# Altium integrated library Analog Devices Interface and Isolation Digital Isolators.IntLib: 645 symbols (part 25 of 36)
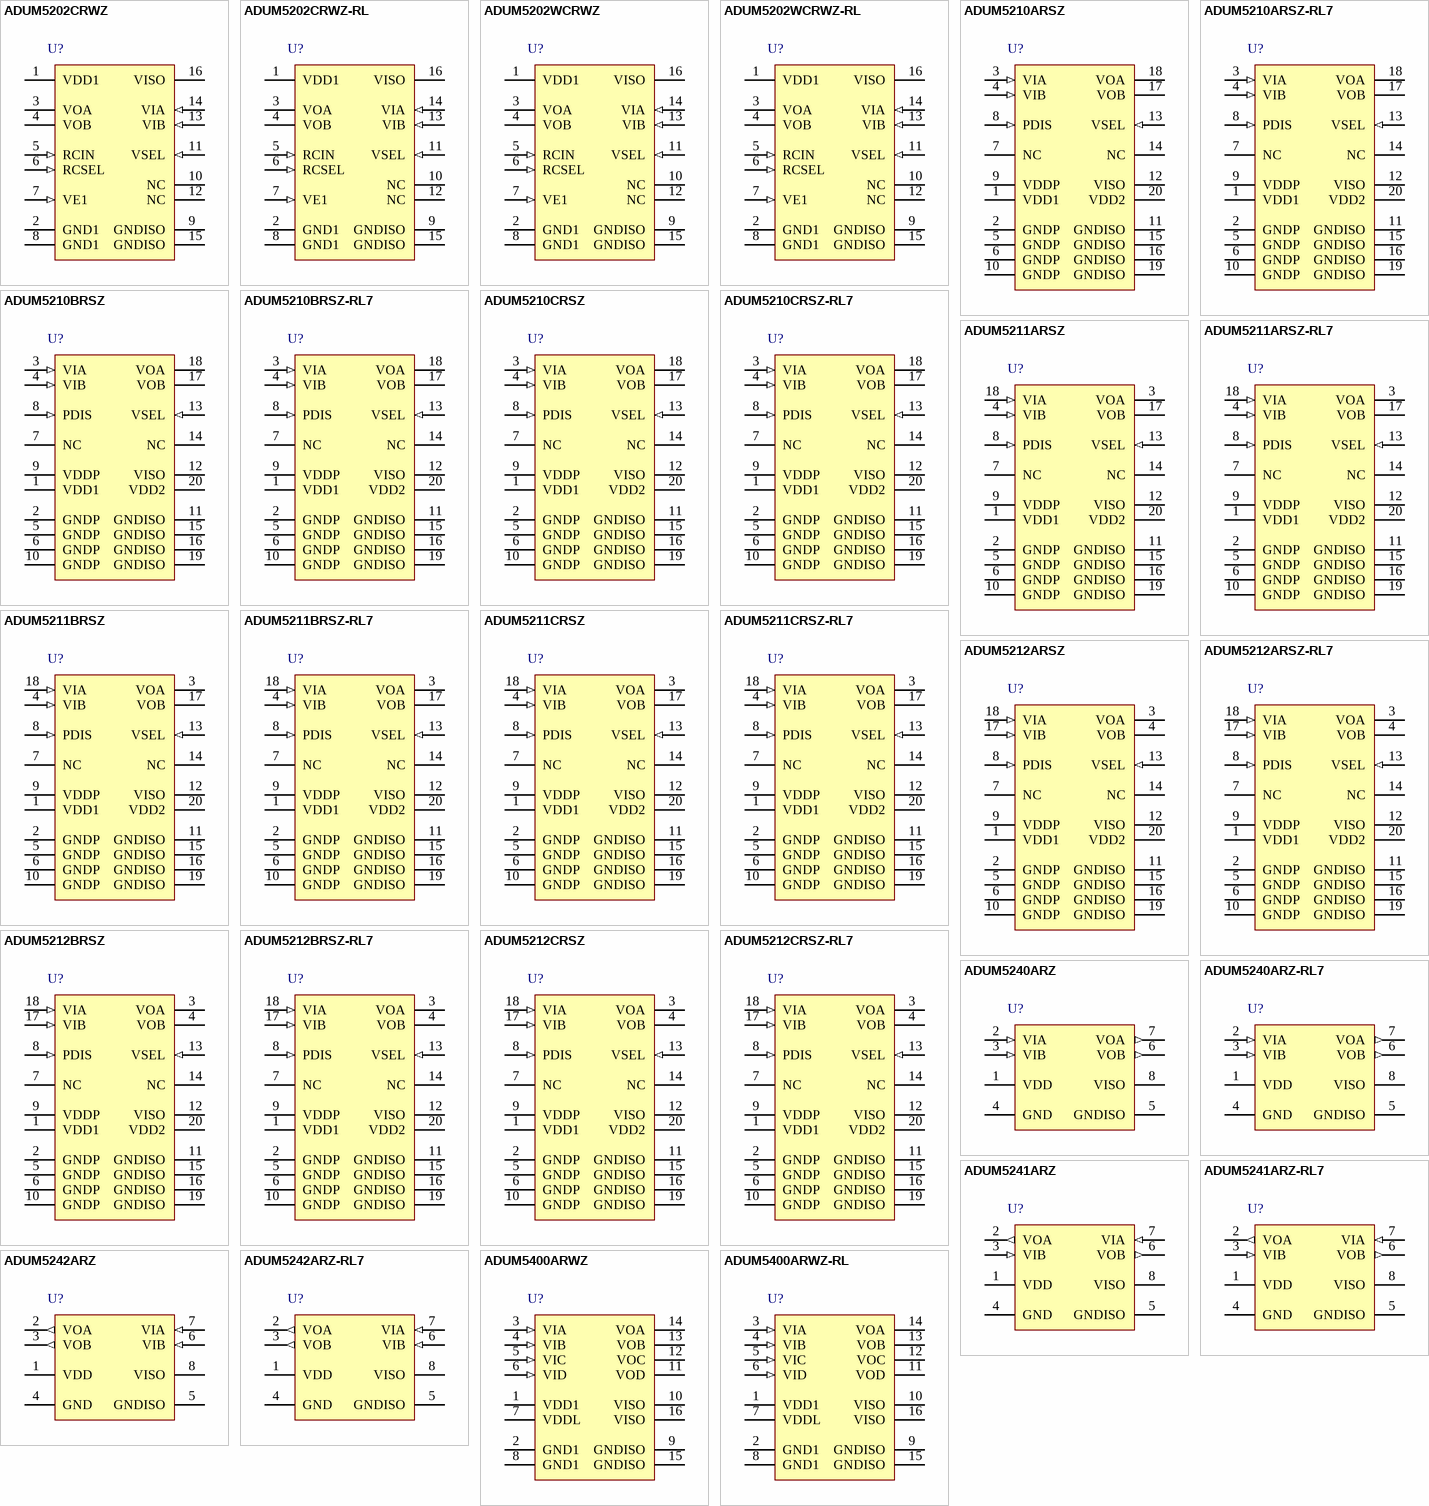
[diagram p44: symbols ADUM5202CRWZ to ADUM5400ARWZ-RL]

## ADUM5211ARSZ-RL7
designator U?
Dual Channel Isolator with Integrated DC / DC Converter, 2.5 KV rms Insulation Rating, 1 Mbps Data Rate, 75 ns Delay, Industrial, 20-pin SOP (RS-20), Reel; Manufacturer: Analog Devices; PartNumber: ADUM5211ARSZ-RL7; Insulation Rating (kVrms): 2.5; Max Data Rate: 1Mbps; Prop Delay: 75ns; DatasheetVersion: Rev. 0; PackageVersion: Mar-03; PackageReference: RS-20; PackageDescription: 20-Pin Shrink Small Outline Package, Body 7.2 x 5.3 mm, Pitch 0.65 mm; Supplier 1: Digi-Key; Supplier Part Number 1: ADUM5211ARSZ-RL7-ND; Max Operating Temp (degreesC): 105; Mounting Technology: Surface Mount; Code_JEDEC: MO-150AE; ComponentLink1Description: Manufacturer URL; ComponentLink1URL: http://www.analog.com/en/index.html; ComponentLink2Description: Datasheet; ComponentLink2URL: http://www.analog.com/static/imported-files/data_sheets/ADuM5210_5211_5212.pdf; ComponentLink3Description: Package Specification; ComponentLink3URL: http://www.analog.com/static/imported-files/packages/318405805657546556503576154334802686596RS_20.pdf
footprint ADI-RS-20_N (SOP, 20-Leads, Body 7.2x5.3mm, Pitch 0.65mm, IPC Medium Density)
footprint ADI-RS-20_L (SOP, 20-Leads, Body 7.2x5.3mm, Pitch 0.65mm, IPC High Density)
footprint ADI-RS-20_M (SOP, 20-Leads, Body 7.2x5.3mm, Pitch 0.65mm, IPC Low Density)
pins: 1 VDD1 (power) "Power Supply for the Side 1 Logic Circuits of the Device. It is independent of VDDP and can operate between 3.0 V and 5.5 V.", 2 GNDP (power) "Ground Reference for Isolator Side 1. All of these pins are internally connected, and it is recommended that all GNDP pins be connected to a common ground.", 3 VOA (hiz) "Logic Output A.", 4 VIB (in) "Logic Input B.", 5 GNDP (power) "Ground Reference for Isolator Side 1. All of these pins are internally connected, and it is recommended that all GNDP pins be connected to a common ground.", 6 GNDP (power) "Ground Reference for Isolator Side 1. All of these pins are internally connected, and it is recommended that all GNDP pins be connected to a common ground.", 7 NC "This pin is not connected internally.", 8 PDIS (in) "Power Disable. When this pin is tied to a logic low, the power converter is active; when tied to a logic high, the power supply enters a low power standby mode.", 9 VDDP (power) "Primary isoPower Supply Voltage, 3.0 V to 5.5 V.", 10 GNDP (power) "Ground Reference for Isolator Side 1. All of these pins are internally connected, and it is recommended that all GNDP pins be connected to a common ground.", 11 GNDISO (power) "Ground Reference for Isolator Side 2. All of these pins are internally connected, and it is recommended that all GNDISO pins be connected to a common ground.", 12 VISO (power) "Secondary Supply Voltage Output for External Loads, 3.3 V (VSEL Low) or 5.0 V (VSEL High).", 13 VSEL (in) "Output Voltage Select. Provide a thermally matched resistor network between VISO and GNDISO to divide the required output voltage to match the 1.25 V reference voltage. VISO voltage can be programmed up to 20% higher or 75% (See Datasheet)", 14 NC "This pin is not connected internally.", 15 GNDISO (power) "Ground Reference for Isolator Side 2. All of these pins are internally connected, and it is recommended that all GNDISO pins be connected to a common ground.", 16 GNDISO (power) "Ground Reference for Isolator Side 2. All of these pins are internally connected, and it is recommended that all GNDISO pins be connected to a common ground.", 17 VOB (hiz) "Logic Output B.", 18 VIA (in) "Logic Input A.", 19 GNDISO (power) "Ground Reference for Isolator Side 2. All of these pins are internally connected, and it is recommended that all GNDISO pins be connected to a common ground.", 20 VDD2 (power) "Power Supply for the Side 2 Logic Circuits of the Device. It is independent of VISO and can operate between 3.0 V and 5.5 V."

## ADUM5211BRSZ
designator U?
Dual Channel Isolator with Integrated DC / DC Converter, 2.5 KV rms Insulation Rating, 25 Mbps Data Rate, 40 ns Delay, Industrial, 20-pin SOP (RS-20), Tube; Manufacturer: Analog Devices; PartNumber: ADUM5211BRSZ; Insulation Rating (kVrms): 2.5; Max Data Rate: 25Mbps; Prop Delay: 40ns; DatasheetVersion: Rev. 0; PackageVersion: Mar-03; PackageReference: RS-20; PackageDescription: 20-Pin Shrink Small Outline Package, Body 7.2 x 5.3 mm, Pitch 0.65 mm; Supplier 1: Digi-Key; Supplier Part Number 1: ADUM5211BRSZ-ND; Max Operating Temp (degreesC): 105; Mounting Technology: Surface Mount; Code_JEDEC: MO-150AE; ComponentLink1Description: Manufacturer URL; ComponentLink1URL: http://www.analog.com/en/index.html; ComponentLink2Description: Datasheet; ComponentLink2URL: http://www.analog.com/static/imported-files/data_sheets/ADuM5210_5211_5212.pdf; ComponentLink3Description: Package Specification; ComponentLink3URL: http://www.analog.com/static/imported-files/packages/318405805657546556503576154334802686596RS_20.pdf
footprint ADI-RS-20_N (SOP, 20-Leads, Body 7.2x5.3mm, Pitch 0.65mm, IPC Medium Density)
footprint ADI-RS-20_L (SOP, 20-Leads, Body 7.2x5.3mm, Pitch 0.65mm, IPC High Density)
footprint ADI-RS-20_M (SOP, 20-Leads, Body 7.2x5.3mm, Pitch 0.65mm, IPC Low Density)
pins: 1 VDD1 (power) "Power Supply for the Side 1 Logic Circuits of the Device. It is independent of VDDP and can operate between 3.0 V and 5.5 V.", 2 GNDP (power) "Ground Reference for Isolator Side 1. All of these pins are internally connected, and it is recommended that all GNDP pins be connected to a common ground.", 3 VOA (hiz) "Logic Output A.", 4 VIB (in) "Logic Input B.", 5 GNDP (power) "Ground Reference for Isolator Side 1. All of these pins are internally connected, and it is recommended that all GNDP pins be connected to a common ground.", 6 GNDP (power) "Ground Reference for Isolator Side 1. All of these pins are internally connected, and it is recommended that all GNDP pins be connected to a common ground.", 7 NC "This pin is not connected internally.", 8 PDIS (in) "Power Disable. When this pin is tied to a logic low, the power converter is active; when tied to a logic high, the power supply enters a low power standby mode.", 9 VDDP (power) "Primary isoPower Supply Voltage, 3.0 V to 5.5 V.", 10 GNDP (power) "Ground Reference for Isolator Side 1. All of these pins are internally connected, and it is recommended that all GNDP pins be connected to a common ground.", 11 GNDISO (power) "Ground Reference for Isolator Side 2. All of these pins are internally connected, and it is recommended that all GNDISO pins be connected to a common ground.", 12 VISO (power) "Secondary Supply Voltage Output for External Loads, 3.3 V (VSEL Low) or 5.0 V (VSEL High).", 13 VSEL (in) "Output Voltage Select. Provide a thermally matched resistor network between VISO and GNDISO to divide the required output voltage to match the 1.25 V reference voltage. VISO voltage can be programmed up to 20% higher or 75% (See Datasheet)", 14 NC "This pin is not connected internally.", 15 GNDISO (power) "Ground Reference for Isolator Side 2. All of these pins are internally connected, and it is recommended that all GNDISO pins be connected to a common ground.", 16 GNDISO (power) "Ground Reference for Isolator Side 2. All of these pins are internally connected, and it is recommended that all GNDISO pins be connected to a common ground.", 17 VOB (hiz) "Logic Output B.", 18 VIA (in) "Logic Input A.", 19 GNDISO (power) "Ground Reference for Isolator Side 2. All of these pins are internally connected, and it is recommended that all GNDISO pins be connected to a common ground.", 20 VDD2 (power) "Power Supply for the Side 2 Logic Circuits of the Device. It is independent of VISO and can operate between 3.0 V and 5.5 V."

## ADUM5211BRSZ-RL7
designator U?
Dual Channel Isolator with Integrated DC / DC Converter, 2.5 KV rms Insulation Rating, 25 Mbps Data Rate, 40 ns Delay, Industrial, 20-pin SOP (RS-20), Reel; Manufacturer: Analog Devices; PartNumber: ADUM5211BRSZ-RL7; Insulation Rating (kVrms): 2.5; Max Data Rate: 25Mbps; Prop Delay: 40ns; DatasheetVersion: Rev. 0; PackageVersion: Mar-03; PackageReference: RS-20; PackageDescription: 20-Pin Shrink Small Outline Package, Body 7.2 x 5.3 mm, Pitch 0.65 mm; Supplier 1: Digi-Key; Supplier Part Number 1: ADUM5211BRSZ-RL7-ND; Max Operating Temp (degreesC): 105; Mounting Technology: Surface Mount; Code_JEDEC: MO-150AE; ComponentLink1Description: Manufacturer URL; ComponentLink1URL: http://www.analog.com/en/index.html; ComponentLink2Description: Datasheet; ComponentLink2URL: http://www.analog.com/static/imported-files/data_sheets/ADuM5210_5211_5212.pdf; ComponentLink3Description: Package Specification; ComponentLink3URL: http://www.analog.com/static/imported-files/packages/318405805657546556503576154334802686596RS_20.pdf
footprint ADI-RS-20_N (SOP, 20-Leads, Body 7.2x5.3mm, Pitch 0.65mm, IPC Medium Density)
footprint ADI-RS-20_L (SOP, 20-Leads, Body 7.2x5.3mm, Pitch 0.65mm, IPC High Density)
footprint ADI-RS-20_M (SOP, 20-Leads, Body 7.2x5.3mm, Pitch 0.65mm, IPC Low Density)
pins: 1 VDD1 (power) "Power Supply for the Side 1 Logic Circuits of the Device. It is independent of VDDP and can operate between 3.0 V and 5.5 V.", 2 GNDP (power) "Ground Reference for Isolator Side 1. All of these pins are internally connected, and it is recommended that all GNDP pins be connected to a common ground.", 3 VOA (hiz) "Logic Output A.", 4 VIB (in) "Logic Input B.", 5 GNDP (power) "Ground Reference for Isolator Side 1. All of these pins are internally connected, and it is recommended that all GNDP pins be connected to a common ground.", 6 GNDP (power) "Ground Reference for Isolator Side 1. All of these pins are internally connected, and it is recommended that all GNDP pins be connected to a common ground.", 7 NC "This pin is not connected internally.", 8 PDIS (in) "Power Disable. When this pin is tied to a logic low, the power converter is active; when tied to a logic high, the power supply enters a low power standby mode.", 9 VDDP (power) "Primary isoPower Supply Voltage, 3.0 V to 5.5 V.", 10 GNDP (power) "Ground Reference for Isolator Side 1. All of these pins are internally connected, and it is recommended that all GNDP pins be connected to a common ground.", 11 GNDISO (power) "Ground Reference for Isolator Side 2. All of these pins are internally connected, and it is recommended that all GNDISO pins be connected to a common ground.", 12 VISO (power) "Secondary Supply Voltage Output for External Loads, 3.3 V (VSEL Low) or 5.0 V (VSEL High).", 13 VSEL (in) "Output Voltage Select. Provide a thermally matched resistor network between VISO and GNDISO to divide the required output voltage to match the 1.25 V reference voltage. VISO voltage can be programmed up to 20% higher or 75% (See Datasheet)", 14 NC "This pin is not connected internally.", 15 GNDISO (power) "Ground Reference for Isolator Side 2. All of these pins are internally connected, and it is recommended that all GNDISO pins be connected to a common ground.", 16 GNDISO (power) "Ground Reference for Isolator Side 2. All of these pins are internally connected, and it is recommended that all GNDISO pins be connected to a common ground.", 17 VOB (hiz) "Logic Output B.", 18 VIA (in) "Logic Input A.", 19 GNDISO (power) "Ground Reference for Isolator Side 2. All of these pins are internally connected, and it is recommended that all GNDISO pins be connected to a common ground.", 20 VDD2 (power) "Power Supply for the Side 2 Logic Circuits of the Device. It is independent of VISO and can operate between 3.0 V and 5.5 V."

## ADUM5211CRSZ
designator U?
Dual Channel Isolator with Integrated DC / DC Converter, 2.5 KV rms Insulation Rating, 100 Mbps Data Rate, 15 ns Delay, Industrial, 20-pin SOP (RS-20), Tube; Manufacturer: Analog Devices; PartNumber: ADUM5211CRSZ; Insulation Rating (kVrms): 2.5; Prop Delay: 15ns; DatasheetVersion: Rev. 0; PackageVersion: Mar-03; PackageReference: RS-20; PackageDescription: 20-Pin Shrink Small Outline Package, Body 7.2 x 5.3 mm, Pitch 0.65 mm; Supplier 1: Digi-Key; Supplier Part Number 1: ADUM5211CRSZ-ND; Max Data Rate: 100Mbps; Max Operating Temp (degreesC): 105; Mounting Technology: Surface Mount; Code_JEDEC: MO-150AE; ComponentLink1Description: Manufacturer URL; ComponentLink1URL: http://www.analog.com/en/index.html; ComponentLink2Description: Datasheet; ComponentLink2URL: http://www.analog.com/static/imported-files/data_sheets/ADuM5210_5211_5212.pdf; ComponentLink3Description: Package Specification; ComponentLink3URL: http://www.analog.com/static/imported-files/packages/318405805657546556503576154334802686596RS_20.pdf
footprint ADI-RS-20_N (SOP, 20-Leads, Body 7.2x5.3mm, Pitch 0.65mm, IPC Medium Density)
footprint ADI-RS-20_L (SOP, 20-Leads, Body 7.2x5.3mm, Pitch 0.65mm, IPC High Density)
footprint ADI-RS-20_M (SOP, 20-Leads, Body 7.2x5.3mm, Pitch 0.65mm, IPC Low Density)
pins: 1 VDD1 (power) "Power Supply for the Side 1 Logic Circuits of the Device. It is independent of VDDP and can operate between 3.0 V and 5.5 V.", 2 GNDP (power) "Ground Reference for Isolator Side 1. All of these pins are internally connected, and it is recommended that all GNDP pins be connected to a common ground.", 3 VOA (hiz) "Logic Output A.", 4 VIB (in) "Logic Input B.", 5 GNDP (power) "Ground Reference for Isolator Side 1. All of these pins are internally connected, and it is recommended that all GNDP pins be connected to a common ground.", 6 GNDP (power) "Ground Reference for Isolator Side 1. All of these pins are internally connected, and it is recommended that all GNDP pins be connected to a common ground.", 7 NC "This pin is not connected internally.", 8 PDIS (in) "Power Disable. When this pin is tied to a logic low, the power converter is active; when tied to a logic high, the power supply enters a low power standby mode.", 9 VDDP (power) "Primary isoPower Supply Voltage, 3.0 V to 5.5 V.", 10 GNDP (power) "Ground Reference for Isolator Side 1. All of these pins are internally connected, and it is recommended that all GNDP pins be connected to a common ground.", 11 GNDISO (power) "Ground Reference for Isolator Side 2. All of these pins are internally connected, and it is recommended that all GNDISO pins be connected to a common ground.", 12 VISO (power) "Secondary Supply Voltage Output for External Loads, 3.3 V (VSEL Low) or 5.0 V (VSEL High).", 13 VSEL (in) "Output Voltage Select. Provide a thermally matched resistor network between VISO and GNDISO to divide the required output voltage to match the 1.25 V reference voltage. VISO voltage can be programmed up to 20% higher or 75% (See Datasheet)", 14 NC "This pin is not connected internally.", 15 GNDISO (power) "Ground Reference for Isolator Side 2. All of these pins are internally connected, and it is recommended that all GNDISO pins be connected to a common ground.", 16 GNDISO (power) "Ground Reference for Isolator Side 2. All of these pins are internally connected, and it is recommended that all GNDISO pins be connected to a common ground.", 17 VOB (hiz) "Logic Output B.", 18 VIA (in) "Logic Input A.", 19 GNDISO (power) "Ground Reference for Isolator Side 2. All of these pins are internally connected, and it is recommended that all GNDISO pins be connected to a common ground.", 20 VDD2 (power) "Power Supply for the Side 2 Logic Circuits of the Device. It is independent of VISO and can operate between 3.0 V and 5.5 V."

## ADUM5211CRSZ-RL7
designator U?
Dual Channel Isolator with Integrated DC / DC Converter, 2.5 KV rms Insulation Rating, 100 Mbps Data Rate, 15 ns Delay, Industrial, 20-pin SOP (RS-20), Reel; Manufacturer: Analog Devices; PartNumber: ADUM5211CRSZ-RL7; Insulation Rating (kVrms): 2.5; Prop Delay: 15ns; DatasheetVersion: Rev. 0; PackageVersion: Mar-03; PackageReference: RS-20; PackageDescription: 20-Pin Shrink Small Outline Package, Body 7.2 x 5.3 mm, Pitch 0.65 mm; Supplier 1: Digi-Key; Supplier Part Number 1: ADUM5211CRSZ-RL7-ND; Max Data Rate: 100Mbps; Max Operating Temp (degreesC): 105; Mounting Technology: Surface Mount; Code_JEDEC: MO-150AE; ComponentLink1Description: Manufacturer URL; ComponentLink1URL: http://www.analog.com/en/index.html; ComponentLink2Description: Datasheet; ComponentLink2URL: http://www.analog.com/static/imported-files/data_sheets/ADuM5210_5211_5212.pdf; ComponentLink3Description: Package Specification; ComponentLink3URL: http://www.analog.com/static/imported-files/packages/318405805657546556503576154334802686596RS_20.pdf
footprint ADI-RS-20_N (SOP, 20-Leads, Body 7.2x5.3mm, Pitch 0.65mm, IPC Medium Density)
footprint ADI-RS-20_L (SOP, 20-Leads, Body 7.2x5.3mm, Pitch 0.65mm, IPC High Density)
footprint ADI-RS-20_M (SOP, 20-Leads, Body 7.2x5.3mm, Pitch 0.65mm, IPC Low Density)
pins: 1 VDD1 (power) "Power Supply for the Side 1 Logic Circuits of the Device. It is independent of VDDP and can operate between 3.0 V and 5.5 V.", 2 GNDP (power) "Ground Reference for Isolator Side 1. All of these pins are internally connected, and it is recommended that all GNDP pins be connected to a common ground.", 3 VOA (hiz) "Logic Output A.", 4 VIB (in) "Logic Input B.", 5 GNDP (power) "Ground Reference for Isolator Side 1. All of these pins are internally connected, and it is recommended that all GNDP pins be connected to a common ground.", 6 GNDP (power) "Ground Reference for Isolator Side 1. All of these pins are internally connected, and it is recommended that all GNDP pins be connected to a common ground.", 7 NC "This pin is not connected internally.", 8 PDIS (in) "Power Disable. When this pin is tied to a logic low, the power converter is active; when tied to a logic high, the power supply enters a low power standby mode.", 9 VDDP (power) "Primary isoPower Supply Voltage, 3.0 V to 5.5 V.", 10 GNDP (power) "Ground Reference for Isolator Side 1. All of these pins are internally connected, and it is recommended that all GNDP pins be connected to a common ground.", 11 GNDISO (power) "Ground Reference for Isolator Side 2. All of these pins are internally connected, and it is recommended that all GNDISO pins be connected to a common ground.", 12 VISO (power) "Secondary Supply Voltage Output for External Loads, 3.3 V (VSEL Low) or 5.0 V (VSEL High).", 13 VSEL (in) "Output Voltage Select. Provide a thermally matched resistor network between VISO and GNDISO to divide the required output voltage to match the 1.25 V reference voltage. VISO voltage can be programmed up to 20% higher or 75% (See Datasheet)", 14 NC "This pin is not connected internally.", 15 GNDISO (power) "Ground Reference for Isolator Side 2. All of these pins are internally connected, and it is recommended that all GNDISO pins be connected to a common ground.", 16 GNDISO (power) "Ground Reference for Isolator Side 2. All of these pins are internally connected, and it is recommended that all GNDISO pins be connected to a common ground.", 17 VOB (hiz) "Logic Output B.", 18 VIA (in) "Logic Input A.", 19 GNDISO (power) "Ground Reference for Isolator Side 2. All of these pins are internally connected, and it is recommended that all GNDISO pins be connected to a common ground.", 20 VDD2 (power) "Power Supply for the Side 2 Logic Circuits of the Device. It is independent of VISO and can operate between 3.0 V and 5.5 V."

## ADUM5212ARSZ
designator U?
Dual Channel Isolator with Integrated DC / DC Converter, 2.5 KV rms Insulation Rating, 1 Mbps Data Rate, 75 ns Delay, Industrial, 20-pin SOP (RS-20), Tube; Manufacturer: Analog Devices; PartNumber: ADUM5212ARSZ; Insulation Rating (kVrms): 2.5; Max Data Rate: 1Mbps; Prop Delay: 75ns; DatasheetVersion: Rev. 0; PackageVersion: Mar-03; PackageReference: RS-20; PackageDescription: 20-Pin Shrink Small Outline Package, Body 7.2 x 5.3 mm, Pitch 0.65 mm; Supplier 1: Digi-Key; Supplier Part Number 1: ADUM5212ARSZ-ND; Max Operating Temp (degreesC): 105; Mounting Technology: Surface Mount; Code_JEDEC: MO-150AE; ComponentLink1Description: Manufacturer URL; ComponentLink1URL: http://www.analog.com/en/index.html; ComponentLink2Description: Datasheet; ComponentLink2URL: http://www.analog.com/static/imported-files/data_sheets/ADuM5210_5211_5212.pdf; ComponentLink3Description: Package Specification; ComponentLink3URL: http://www.analog.com/static/imported-files/packages/318405805657546556503576154334802686596RS_20.pdf
footprint ADI-RS-20_N (SOP, 20-Leads, Body 7.2x5.3mm, Pitch 0.65mm, IPC Medium Density)
footprint ADI-RS-20_L (SOP, 20-Leads, Body 7.2x5.3mm, Pitch 0.65mm, IPC High Density)
footprint ADI-RS-20_M (SOP, 20-Leads, Body 7.2x5.3mm, Pitch 0.65mm, IPC Low Density)
pins: 1 VDD1 (power) "Power Supply for the Side 1 Logic Circuits of the Device. It is independent of VDDP and can operate between 3.0 V and 5.5 V.", 2 GNDP (power) "Ground Reference for Isolator Side 1. All of these pins are internally connected, and it is recommended that all GNDP pins be connected to a common ground.", 3 VOA (hiz) "Logic Output A.", 4 VOB (hiz) "Logic Output B.", 5 GNDP (power) "Ground Reference for Isolator Side 1. All of these pins are internally connected, and it is recommended that all GNDP pins be connected to a common ground.", 6 GNDP (power) "Ground Reference for Isolator Side 1. All of these pins are internally connected, and it is recommended that all GNDP pins be connected to a common ground.", 7 NC "This pin is not connected internally (see Figure 5).", 8 PDIS (in) "Power Disable. When this pin is tied to a logic low, the power converter is active; when tied to a logic high, the power supply enters a low power standby mode.", 9 VDDP (power) "Primary isoPower Supply Voltage, 3.0 V to 5.5 V.", 10 GNDP (power) "Ground Reference for Isolator Side 1. All of these pins are internally connected, and it is recommended that all GNDP pins be connected to a common ground.", 11 GNDISO (power) "Ground Reference for Isolator Side 2. All of these pins are internally connected, and it is recommended that all GNDISO pins be connected to a common ground.", 12 VISO (power) "Secondary Supply Voltage Output for External Loads, 3.3 V (VSEL Low) or 5.0 V (VSEL High).", 13 VSEL (in) "Output Voltage Select. Provide a thermally matched resistor network between VISO and GNDISO to divide the required output voltage to match the 1.25 V reference voltage. VISO voltage can be programmed up to 20% higher or 75% (See Datasheet)", 14 NC "This pin is not connected internally (see Figure 5).", 15 GNDISO (power) "Ground Reference for Isolator Side 2. All of these pins are internally connected, and it is recommended that all GNDISO pins be connected to a common ground.", 16 GNDISO (power) "Ground Reference for Isolator Side 2. All of these pins are internally connected, and it is recommended that all GNDISO pins be connected to a common ground.", 17 VIB (in) "Logic Input B.", 18 VIA (in) "Logic Input A.", 19 GNDISO (power) "Ground Reference for Isolator Side 2. All of these pins are internally connected, and it is recommended that all GNDISO pins be connected to a common ground.", 20 VDD2 (power) "Power Supply for the Side 2 Logic Circuits of the Device. It is independent of VISO and can operate between 3.0 V and 5.5 V."

## ADUM5212ARSZ-RL7
designator U?
Dual Channel Isolator with Integrated DC / DC Converter, 2.5 KV rms Insulation Rating, 1 Mbps Data Rate, 75 ns Delay, Industrial, 20-pin SOP (RS-20), Reel; Manufacturer: Analog Devices; PartNumber: ADUM5212ARSZ-RL7; Insulation Rating (kVrms): 2.5; Max Data Rate: 1Mbps; Prop Delay: 75ns; DatasheetVersion: Rev. 0; PackageVersion: Mar-03; PackageReference: RS-20; PackageDescription: 20-Pin Shrink Small Outline Package, Body 7.2 x 5.3 mm, Pitch 0.65 mm; Supplier 1: Digi-Key; Supplier Part Number 1: ADUM5212ARSZ-RL7-ND; Max Operating Temp (degreesC): 105; Mounting Technology: Surface Mount; Code_JEDEC: MO-150AE; ComponentLink1Description: Manufacturer URL; ComponentLink1URL: http://www.analog.com/en/index.html; ComponentLink2Description: Datasheet; ComponentLink2URL: http://www.analog.com/static/imported-files/data_sheets/ADuM5210_5211_5212.pdf; ComponentLink3Description: Package Specification; ComponentLink3URL: http://www.analog.com/static/imported-files/packages/318405805657546556503576154334802686596RS_20.pdf
footprint ADI-RS-20_N (SOP, 20-Leads, Body 7.2x5.3mm, Pitch 0.65mm, IPC Medium Density)
footprint ADI-RS-20_L (SOP, 20-Leads, Body 7.2x5.3mm, Pitch 0.65mm, IPC High Density)
footprint ADI-RS-20_M (SOP, 20-Leads, Body 7.2x5.3mm, Pitch 0.65mm, IPC Low Density)
pins: 1 VDD1 (power) "Power Supply for the Side 1 Logic Circuits of the Device. It is independent of VDDP and can operate between 3.0 V and 5.5 V.", 2 GNDP (power) "Ground Reference for Isolator Side 1. All of these pins are internally connected, and it is recommended that all GNDP pins be connected to a common ground.", 3 VOA (hiz) "Logic Output A.", 4 VOB (hiz) "Logic Output B.", 5 GNDP (power) "Ground Reference for Isolator Side 1. All of these pins are internally connected, and it is recommended that all GNDP pins be connected to a common ground.", 6 GNDP (power) "Ground Reference for Isolator Side 1. All of these pins are internally connected, and it is recommended that all GNDP pins be connected to a common ground.", 7 NC "This pin is not connected internally (see Figure 5).", 8 PDIS (in) "Power Disable. When this pin is tied to a logic low, the power converter is active; when tied to a logic high, the power supply enters a low power standby mode.", 9 VDDP (power) "Primary isoPower Supply Voltage, 3.0 V to 5.5 V.", 10 GNDP (power) "Ground Reference for Isolator Side 1. All of these pins are internally connected, and it is recommended that all GNDP pins be connected to a common ground.", 11 GNDISO (power) "Ground Reference for Isolator Side 2. All of these pins are internally connected, and it is recommended that all GNDISO pins be connected to a common ground.", 12 VISO (power) "Secondary Supply Voltage Output for External Loads, 3.3 V (VSEL Low) or 5.0 V (VSEL High).", 13 VSEL (in) "Output Voltage Select. Provide a thermally matched resistor network between VISO and GNDISO to divide the required output voltage to match the 1.25 V reference voltage. VISO voltage can be programmed up to 20% higher or 75% (See Datasheet)", 14 NC "This pin is not connected internally (see Figure 5).", 15 GNDISO (power) "Ground Reference for Isolator Side 2. All of these pins are internally connected, and it is recommended that all GNDISO pins be connected to a common ground.", 16 GNDISO (power) "Ground Reference for Isolator Side 2. All of these pins are internally connected, and it is recommended that all GNDISO pins be connected to a common ground.", 17 VIB (in) "Logic Input B.", 18 VIA (in) "Logic Input A.", 19 GNDISO (power) "Ground Reference for Isolator Side 2. All of these pins are internally connected, and it is recommended that all GNDISO pins be connected to a common ground.", 20 VDD2 (power) "Power Supply for the Side 2 Logic Circuits of the Device. It is independent of VISO and can operate between 3.0 V and 5.5 V."

## ADUM5212BRSZ
designator U?
Dual Channel Isolator with Integrated DC / DC Converter, 2.5 KV rms Insulation Rating, 25 Mbps Data Rate, 40 ns Delay, Industrial, 20-pin SOP (RS-20), Tube; Manufacturer: Analog Devices; PartNumber: ADUM5212BRSZ; Insulation Rating (kVrms): 2.5; Max Data Rate: 25Mbps; Prop Delay: 40ns; DatasheetVersion: Rev. 0; PackageVersion: Mar-03; PackageReference: RS-20; PackageDescription: 20-Pin Shrink Small Outline Package, Body 7.2 x 5.3 mm, Pitch 0.65 mm; Supplier 1: Digi-Key; Supplier Part Number 1: ADUM5212BRSZ-ND; Max Operating Temp (degreesC): 105; Mounting Technology: Surface Mount; Code_JEDEC: MO-150AE; ComponentLink1Description: Manufacturer URL; ComponentLink1URL: http://www.analog.com/en/index.html; ComponentLink2Description: Datasheet; ComponentLink2URL: http://www.analog.com/static/imported-files/data_sheets/ADuM5210_5211_5212.pdf; ComponentLink3Description: Package Specification; ComponentLink3URL: http://www.analog.com/static/imported-files/packages/318405805657546556503576154334802686596RS_20.pdf
footprint ADI-RS-20_N (SOP, 20-Leads, Body 7.2x5.3mm, Pitch 0.65mm, IPC Medium Density)
footprint ADI-RS-20_L (SOP, 20-Leads, Body 7.2x5.3mm, Pitch 0.65mm, IPC High Density)
footprint ADI-RS-20_M (SOP, 20-Leads, Body 7.2x5.3mm, Pitch 0.65mm, IPC Low Density)
pins: 1 VDD1 (power) "Power Supply for the Side 1 Logic Circuits of the Device. It is independent of VDDP and can operate between 3.0 V and 5.5 V.", 2 GNDP (power) "Ground Reference for Isolator Side 1. All of these pins are internally connected, and it is recommended that all GNDP pins be connected to a common ground.", 3 VOA (hiz) "Logic Output A.", 4 VOB (hiz) "Logic Output B.", 5 GNDP (power) "Ground Reference for Isolator Side 1. All of these pins are internally connected, and it is recommended that all GNDP pins be connected to a common ground.", 6 GNDP (power) "Ground Reference for Isolator Side 1. All of these pins are internally connected, and it is recommended that all GNDP pins be connected to a common ground.", 7 NC "This pin is not connected internally (see Figure 5).", 8 PDIS (in) "Power Disable. When this pin is tied to a logic low, the power converter is active; when tied to a logic high, the power supply enters a low power standby mode.", 9 VDDP (power) "Primary isoPower Supply Voltage, 3.0 V to 5.5 V.", 10 GNDP (power) "Ground Reference for Isolator Side 1. All of these pins are internally connected, and it is recommended that all GNDP pins be connected to a common ground.", 11 GNDISO (power) "Ground Reference for Isolator Side 2. All of these pins are internally connected, and it is recommended that all GNDISO pins be connected to a common ground.", 12 VISO (power) "Secondary Supply Voltage Output for External Loads, 3.3 V (VSEL Low) or 5.0 V (VSEL High).", 13 VSEL (in) "Output Voltage Select. Provide a thermally matched resistor network between VISO and GNDISO to divide the required output voltage to match the 1.25 V reference voltage. VISO voltage can be programmed up to 20% higher or 75% (See Datasheet)", 14 NC "This pin is not connected internally (see Figure 5).", 15 GNDISO (power) "Ground Reference for Isolator Side 2. All of these pins are internally connected, and it is recommended that all GNDISO pins be connected to a common ground.", 16 GNDISO (power) "Ground Reference for Isolator Side 2. All of these pins are internally connected, and it is recommended that all GNDISO pins be connected to a common ground.", 17 VIB (in) "Logic Input B.", 18 VIA (in) "Logic Input A.", 19 GNDISO (power) "Ground Reference for Isolator Side 2. All of these pins are internally connected, and it is recommended that all GNDISO pins be connected to a common ground.", 20 VDD2 (power) "Power Supply for the Side 2 Logic Circuits of the Device. It is independent of VISO and can operate between 3.0 V and 5.5 V."

## ADUM5212BRSZ-RL7
designator U?
Dual Channel Isolator with Integrated DC / DC Converter, 2.5 KV rms Insulation Rating, 25 Mbps Data Rate, 40 ns Delay, Industrial, 20-pin SOP (RS-20), Reel; Manufacturer: Analog Devices; PartNumber: ADUM5212BRSZ-RL7; Insulation Rating (kVrms): 2.5; Max Data Rate: 25Mbps; Prop Delay: 40ns; DatasheetVersion: Rev. 0; PackageVersion: Mar-03; PackageReference: RS-20; PackageDescription: 20-Pin Shrink Small Outline Package, Body 7.2 x 5.3 mm, Pitch 0.65 mm; Supplier 1: Digi-Key; Supplier Part Number 1: ADUM5212BRSZ-RL7-ND; Max Operating Temp (degreesC): 105; Mounting Technology: Surface Mount; Code_JEDEC: MO-150AE; ComponentLink1Description: Manufacturer URL; ComponentLink1URL: http://www.analog.com/en/index.html; ComponentLink2Description: Datasheet; ComponentLink2URL: http://www.analog.com/static/imported-files/data_sheets/ADuM5210_5211_5212.pdf; ComponentLink3Description: Package Specification; ComponentLink3URL: http://www.analog.com/static/imported-files/packages/318405805657546556503576154334802686596RS_20.pdf
footprint ADI-RS-20_N (SOP, 20-Leads, Body 7.2x5.3mm, Pitch 0.65mm, IPC Medium Density)
footprint ADI-RS-20_L (SOP, 20-Leads, Body 7.2x5.3mm, Pitch 0.65mm, IPC High Density)
footprint ADI-RS-20_M (SOP, 20-Leads, Body 7.2x5.3mm, Pitch 0.65mm, IPC Low Density)
pins: 1 VDD1 (power) "Power Supply for the Side 1 Logic Circuits of the Device. It is independent of VDDP and can operate between 3.0 V and 5.5 V.", 2 GNDP (power) "Ground Reference for Isolator Side 1. All of these pins are internally connected, and it is recommended that all GNDP pins be connected to a common ground.", 3 VOA (hiz) "Logic Output A.", 4 VOB (hiz) "Logic Output B.", 5 GNDP (power) "Ground Reference for Isolator Side 1. All of these pins are internally connected, and it is recommended that all GNDP pins be connected to a common ground.", 6 GNDP (power) "Ground Reference for Isolator Side 1. All of these pins are internally connected, and it is recommended that all GNDP pins be connected to a common ground.", 7 NC "This pin is not connected internally (see Figure 5).", 8 PDIS (in) "Power Disable. When this pin is tied to a logic low, the power converter is active; when tied to a logic high, the power supply enters a low power standby mode.", 9 VDDP (power) "Primary isoPower Supply Voltage, 3.0 V to 5.5 V.", 10 GNDP (power) "Ground Reference for Isolator Side 1. All of these pins are internally connected, and it is recommended that all GNDP pins be connected to a common ground.", 11 GNDISO (power) "Ground Reference for Isolator Side 2. All of these pins are internally connected, and it is recommended that all GNDISO pins be connected to a common ground.", 12 VISO (power) "Secondary Supply Voltage Output for External Loads, 3.3 V (VSEL Low) or 5.0 V (VSEL High).", 13 VSEL (in) "Output Voltage Select. Provide a thermally matched resistor network between VISO and GNDISO to divide the required output voltage to match the 1.25 V reference voltage. VISO voltage can be programmed up to 20% higher or 75% (See Datasheet)", 14 NC "This pin is not connected internally (see Figure 5).", 15 GNDISO (power) "Ground Reference for Isolator Side 2. All of these pins are internally connected, and it is recommended that all GNDISO pins be connected to a common ground.", 16 GNDISO (power) "Ground Reference for Isolator Side 2. All of these pins are internally connected, and it is recommended that all GNDISO pins be connected to a common ground.", 17 VIB (in) "Logic Input B.", 18 VIA (in) "Logic Input A.", 19 GNDISO (power) "Ground Reference for Isolator Side 2. All of these pins are internally connected, and it is recommended that all GNDISO pins be connected to a common ground.", 20 VDD2 (power) "Power Supply for the Side 2 Logic Circuits of the Device. It is independent of VISO and can operate between 3.0 V and 5.5 V."

## ADUM5212CRSZ
designator U?
Dual Channel Isolator with Integrated DC / DC Converter, 2.5 KV rms Insulation Rating, 100 Mbps Data Rate, 15 ns Delay, Industrial, 20-pin SOP (RS-20), Tube; Manufacturer: Analog Devices; PartNumber: ADUM5212CRSZ; Insulation Rating (kVrms): 2.5; Prop Delay: 15ns; DatasheetVersion: Rev. 0; PackageVersion: Mar-03; PackageReference: RS-20; PackageDescription: 20-Pin Shrink Small Outline Package, Body 7.2 x 5.3 mm, Pitch 0.65 mm; Supplier 1: Digi-Key; Supplier Part Number 1: ADUM5212CRSZ-ND; Max Data Rate: 100Mbps; Max Operating Temp (degreesC): 105; Mounting Technology: Surface Mount; Code_JEDEC: MO-150AE; ComponentLink1Description: Manufacturer URL; ComponentLink1URL: http://www.analog.com/en/index.html; ComponentLink2Description: Datasheet; ComponentLink2URL: http://www.analog.com/static/imported-files/data_sheets/ADuM5210_5211_5212.pdf; ComponentLink3Description: Package Specification; ComponentLink3URL: http://www.analog.com/static/imported-files/packages/318405805657546556503576154334802686596RS_20.pdf
footprint ADI-RS-20_N (SOP, 20-Leads, Body 7.2x5.3mm, Pitch 0.65mm, IPC Medium Density)
footprint ADI-RS-20_L (SOP, 20-Leads, Body 7.2x5.3mm, Pitch 0.65mm, IPC High Density)
footprint ADI-RS-20_M (SOP, 20-Leads, Body 7.2x5.3mm, Pitch 0.65mm, IPC Low Density)
pins: 1 VDD1 (power) "Power Supply for the Side 1 Logic Circuits of the Device. It is independent of VDDP and can operate between 3.0 V and 5.5 V.", 2 GNDP (power) "Ground Reference for Isolator Side 1. All of these pins are internally connected, and it is recommended that all GNDP pins be connected to a common ground.", 3 VOA (hiz) "Logic Output A.", 4 VOB (hiz) "Logic Output B.", 5 GNDP (power) "Ground Reference for Isolator Side 1. All of these pins are internally connected, and it is recommended that all GNDP pins be connected to a common ground.", 6 GNDP (power) "Ground Reference for Isolator Side 1. All of these pins are internally connected, and it is recommended that all GNDP pins be connected to a common ground.", 7 NC "This pin is not connected internally (see Figure 5).", 8 PDIS (in) "Power Disable. When this pin is tied to a logic low, the power converter is active; when tied to a logic high, the power supply enters a low power standby mode.", 9 VDDP (power) "Primary isoPower Supply Voltage, 3.0 V to 5.5 V.", 10 GNDP (power) "Ground Reference for Isolator Side 1. All of these pins are internally connected, and it is recommended that all GNDP pins be connected to a common ground.", 11 GNDISO (power) "Ground Reference for Isolator Side 2. All of these pins are internally connected, and it is recommended that all GNDISO pins be connected to a common ground.", 12 VISO (power) "Secondary Supply Voltage Output for External Loads, 3.3 V (VSEL Low) or 5.0 V (VSEL High).", 13 VSEL (in) "Output Voltage Select. Provide a thermally matched resistor network between VISO and GNDISO to divide the required output voltage to match the 1.25 V reference voltage. VISO voltage can be programmed up to 20% higher or 75% (See Datasheet)", 14 NC "This pin is not connected internally (see Figure 5).", 15 GNDISO (power) "Ground Reference for Isolator Side 2. All of these pins are internally connected, and it is recommended that all GNDISO pins be connected to a common ground.", 16 GNDISO (power) "Ground Reference for Isolator Side 2. All of these pins are internally connected, and it is recommended that all GNDISO pins be connected to a common ground.", 17 VIB (in) "Logic Input B.", 18 VIA (in) "Logic Input A.", 19 GNDISO (power) "Ground Reference for Isolator Side 2. All of these pins are internally connected, and it is recommended that all GNDISO pins be connected to a common ground.", 20 VDD2 (power) "Power Supply for the Side 2 Logic Circuits of the Device. It is independent of VISO and can operate between 3.0 V and 5.5 V."

## ADUM5212CRSZ-RL7
designator U?
Dual Channel Isolator with Integrated DC / DC Converter, 2.5 KV rms Insulation Rating, 100 Mbps Data Rate, 15 ns Delay, Industrial, 20-pin SOP (RS-20), Reel; Manufacturer: Analog Devices; PartNumber: ADUM5212CRSZ-RL7; Insulation Rating (kVrms): 2.5; Prop Delay: 15ns; DatasheetVersion: Rev. 0; PackageVersion: Mar-03; PackageReference: RS-20; PackageDescription: 20-Pin Shrink Small Outline Package, Body 7.2 x 5.3 mm, Pitch 0.65 mm; Supplier 1: Digi-Key; Supplier Part Number 1: ADUM5212CRSZ-RL7-ND; Max Data Rate: 100Mbps; Max Operating Temp (degreesC): 105; Mounting Technology: Surface Mount; Code_JEDEC: MO-150AE; ComponentLink1Description: Manufacturer URL; ComponentLink1URL: http://www.analog.com/en/index.html; ComponentLink2Description: Datasheet; ComponentLink2URL: http://www.analog.com/static/imported-files/data_sheets/ADuM5210_5211_5212.pdf; ComponentLink3Description: Package Specification; ComponentLink3URL: http://www.analog.com/static/imported-files/packages/318405805657546556503576154334802686596RS_20.pdf
footprint ADI-RS-20_N (SOP, 20-Leads, Body 7.2x5.3mm, Pitch 0.65mm, IPC Medium Density)
footprint ADI-RS-20_L (SOP, 20-Leads, Body 7.2x5.3mm, Pitch 0.65mm, IPC High Density)
footprint ADI-RS-20_M (SOP, 20-Leads, Body 7.2x5.3mm, Pitch 0.65mm, IPC Low Density)
pins: 1 VDD1 (power) "Power Supply for the Side 1 Logic Circuits of the Device. It is independent of VDDP and can operate between 3.0 V and 5.5 V.", 2 GNDP (power) "Ground Reference for Isolator Side 1. All of these pins are internally connected, and it is recommended that all GNDP pins be connected to a common ground.", 3 VOA (hiz) "Logic Output A.", 4 VOB (hiz) "Logic Output B.", 5 GNDP (power) "Ground Reference for Isolator Side 1. All of these pins are internally connected, and it is recommended that all GNDP pins be connected to a common ground.", 6 GNDP (power) "Ground Reference for Isolator Side 1. All of these pins are internally connected, and it is recommended that all GNDP pins be connected to a common ground.", 7 NC "This pin is not connected internally (see Figure 5).", 8 PDIS (in) "Power Disable. When this pin is tied to a logic low, the power converter is active; when tied to a logic high, the power supply enters a low power standby mode.", 9 VDDP (power) "Primary isoPower Supply Voltage, 3.0 V to 5.5 V.", 10 GNDP (power) "Ground Reference for Isolator Side 1. All of these pins are internally connected, and it is recommended that all GNDP pins be connected to a common ground.", 11 GNDISO (power) "Ground Reference for Isolator Side 2. All of these pins are internally connected, and it is recommended that all GNDISO pins be connected to a common ground.", 12 VISO (power) "Secondary Supply Voltage Output for External Loads, 3.3 V (VSEL Low) or 5.0 V (VSEL High).", 13 VSEL (in) "Output Voltage Select. Provide a thermally matched resistor network between VISO and GNDISO to divide the required output voltage to match the 1.25 V reference voltage. VISO voltage can be programmed up to 20% higher or 75% (See Datasheet)", 14 NC "This pin is not connected internally (see Figure 5).", 15 GNDISO (power) "Ground Reference for Isolator Side 2. All of these pins are internally connected, and it is recommended that all GNDISO pins be connected to a common ground.", 16 GNDISO (power) "Ground Reference for Isolator Side 2. All of these pins are internally connected, and it is recommended that all GNDISO pins be connected to a common ground.", 17 VIB (in) "Logic Input B.", 18 VIA (in) "Logic Input A.", 19 GNDISO (power) "Ground Reference for Isolator Side 2. All of these pins are internally connected, and it is recommended that all GNDISO pins be connected to a common ground.", 20 VDD2 (power) "Power Supply for the Side 2 Logic Circuits of the Device. It is independent of VISO and can operate between 3.0 V and 5.5 V."

## ADUM5240ARZ
designator U?
Dual Channel Isolator with Integrated DC / DC Converter, 2.5 KV rms Insulation Rating, 1 Mbps Data Rate, 70 ns Delay, Industrial, 8-pin SOIC (R-8), Tube; Manufacturer: Analog Devices; PartNumber: ADUM5240ARZ; Insulation Rating (kVrms): 2.5; Max Data Rate: 1Mbps; Prop Delay: 70ns; DatasheetVersion: Rev. B; PackageVersion: 060506-A, 06/2006; PackageReference: R-8; PackageDescription: 8-Pin Standard Small Outline Package, Body 4.9 x 3.9 mm, Pitch 1.27 mm; Supplier 1: Digi-Key; Supplier Part Number 1: ADUM5240ARZ-ND; Max Operating Temp (degreesC): 105; Mounting Technology: Surface Mount; Code_JEDEC: MS-012-AA; ComponentLink1Description: Manufacturer URL; ComponentLink1URL: http://www.analog.com/en/index.html; ComponentLink2Description: Datasheet; ComponentLink2URL: http://www.analog.com/static/imported-files/data_sheets/ADUM5240_5241_5242.pdf; ComponentLink3Description: Package Specification; ComponentLink3URL: http://www.analog.com/static/imported-files/packages/PKG_PDF/SOIC_Narrow%20(R)/R_8.pdf
footprint ADI-R-8_N (SOIC, 8-Leads, Body 4.9x3.9mm, Pitch 1.27mm, IPC Medium Density)
footprint ADI-R-8_L (SOIC, 8-Leads, Body 4.9x3.9mm, Pitch 1.27mm, IPC High Density)
footprint ADI-R-8_M (SOIC, 8-Leads, Body 4.9x3.9mm, Pitch 1.27mm, IPC Low Density)
pins: 1 VDD (power) "Supply Voltage for Isolator Primary Side, 4.5 V to 5.5 V (DC-to-DC Enabled) and 2.7 V to 4.0 V (DC-to-DC Disabled).", 2 VIA (in) "Logic Input A.", 3 VIB (in) "Logic Input B.", 4 GND (power) "Ground. Ground reference for isolator primary side.", 5 GNDISO (power) "Isolated Ground. Ground reference for isolator secondary side.", 6 VOB (out) "Logic Output B.", 7 VOA (out) "Logic Output A.", 8 VISO (power) "Isolated Supply Voltage for Isolator Secondary Side, 4.5 V to 5.5 V Output (DC-to-DC Enabled), and 2.7 V to 5.5 V Input (DC-to-DC Disabled)."

## ADUM5240ARZ-RL7
designator U?
Dual Channel Isolator with Integrated DC / DC Converter, 2.5 KV rms Insulation Rating, 1 Mbps Data Rate, 70 ns Delay, Industrial, 8-pin SOIC (R-8), Reel; Manufacturer: Analog Devices; PartNumber: ADUM5240ARZ-RL7; Insulation Rating (kVrms): 2.5; Max Data Rate: 1Mbps; Prop Delay: 70ns; DatasheetVersion: Rev. B; PackageVersion: 060506-A, 06/2006; PackageReference: R-8; PackageDescription: 8-Pin Standard Small Outline Package, Body 4.9 x 3.9 mm, Pitch 1.27 mm; Supplier 1: Digi-Key; Supplier Part Number 1: ADUM5240ARZ-RL7TR-ND; Max Operating Temp (degreesC): 105; Mounting Technology: Surface Mount; Code_JEDEC: MS-012-AA; ComponentLink1Description: Manufacturer URL; ComponentLink1URL: http://www.analog.com/en/index.html; ComponentLink2Description: Datasheet; ComponentLink2URL: http://www.analog.com/static/imported-files/data_sheets/ADUM5240_5241_5242.pdf; ComponentLink3Description: Package Specification; ComponentLink3URL: http://www.analog.com/static/imported-files/packages/PKG_PDF/SOIC_Narrow%20(R)/R_8.pdf
footprint ADI-R-8_N (SOIC, 8-Leads, Body 4.9x3.9mm, Pitch 1.27mm, IPC Medium Density)
footprint ADI-R-8_L (SOIC, 8-Leads, Body 4.9x3.9mm, Pitch 1.27mm, IPC High Density)
footprint ADI-R-8_M (SOIC, 8-Leads, Body 4.9x3.9mm, Pitch 1.27mm, IPC Low Density)
pins: 1 VDD (power) "Supply Voltage for Isolator Primary Side, 4.5 V to 5.5 V (DC-to-DC Enabled) and 2.7 V to 4.0 V (DC-to-DC Disabled).", 2 VIA (in) "Logic Input A.", 3 VIB (in) "Logic Input B.", 4 GND (power) "Ground. Ground reference for isolator primary side.", 5 GNDISO (power) "Isolated Ground. Ground reference for isolator secondary side.", 6 VOB (out) "Logic Output B.", 7 VOA (out) "Logic Output A.", 8 VISO (power) "Isolated Supply Voltage for Isolator Secondary Side, 4.5 V to 5.5 V Output (DC-to-DC Enabled), and 2.7 V to 5.5 V Input (DC-to-DC Disabled)."

## ADUM5241ARZ
designator U?
Dual Channel Isolator with Integrated DC / DC Converter, 2.5 KV rms Insulation Rating, 1 Mbps Data Rate, 70 ns Delay, Industrial, 8-pin SOIC (R-8), Tube; Manufacturer: Analog Devices; PartNumber: ADUM5241ARZ; Insulation Rating (kVrms): 2.5; Max Data Rate: 1Mbps; Prop Delay: 70ns; DatasheetVersion: Rev. B; PackageVersion: 060506-A, 06/2006; PackageReference: R-8; PackageDescription: 8-Pin Standard Small Outline Package, Body 4.9 x 3.9 mm, Pitch 1.27 mm; Supplier 1: Digi-Key; Supplier Part Number 1: ADUM5241ARZ-ND; Max Operating Temp (degreesC): 105; Mounting Technology: Surface Mount; Code_JEDEC: MS-012-AA; ComponentLink1Description: Manufacturer URL; ComponentLink1URL: http://www.analog.com/en/index.html; ComponentLink2Description: Datasheet; ComponentLink2URL: http://www.analog.com/static/imported-files/data_sheets/ADUM5240_5241_5242.pdf; ComponentLink3Description: Package Specification; ComponentLink3URL: http://www.analog.com/static/imported-files/packages/PKG_PDF/SOIC_Narrow%20(R)/R_8.pdf
footprint ADI-R-8_N (SOIC, 8-Leads, Body 4.9x3.9mm, Pitch 1.27mm, IPC Medium Density)
footprint ADI-R-8_L (SOIC, 8-Leads, Body 4.9x3.9mm, Pitch 1.27mm, IPC High Density)
footprint ADI-R-8_M (SOIC, 8-Leads, Body 4.9x3.9mm, Pitch 1.27mm, IPC Low Density)
pins: 1 VDD (power) "Supply Voltage for Isolator Primary Side, 4.5 V to 5.5 V (DC-to-DC Enabled) and 2.7 V to 4.0 V (DC-to-DC Disabled).", 2 VOA (out) "Logic Output A.", 3 VIB (in) "Logic Input B.", 4 GND (power) "Ground. Ground reference for isolator primary side.", 5 GNDISO (power) "Isolated Ground. Ground reference for isolator secondary side.", 6 VOB (out) "Logic Output B.", 7 VIA (in) "Logic Input A.", 8 VISO (power) "Isolated Supply Voltage for Isolator Secondary Side, 4.5 V to 5.5 V Output (DC-to-DC Enabled), and 2.7 V to 5.5 V Input (DC-to-DC Disabled)."

## ADUM5241ARZ-RL7
designator U?
Dual Channel Isolator with Integrated DC / DC Converter, 2.5 KV rms Insulation Rating, 1 Mbps Data Rate, 70 ns Delay, Industrial, 8-pin SOIC (R-8), Reel; Manufacturer: Analog Devices; PartNumber: ADUM5241ARZ-RL7; Insulation Rating (kVrms): 2.5; Max Data Rate: 1Mbps; Prop Delay: 70ns; DatasheetVersion: Rev. B; PackageVersion: 060506-A, 06/2006; PackageReference: R-8; PackageDescription: 8-Pin Standard Small Outline Package, Body 4.9 x 3.9 mm, Pitch 1.27 mm; Supplier 1: Digi-Key; Supplier Part Number 1: ADUM5241ARZ-RL7TR-ND; Max Operating Temp (degreesC): 105; Mounting Technology: Surface Mount; Code_JEDEC: MS-012-AA; ComponentLink1Description: Manufacturer URL; ComponentLink1URL: http://www.analog.com/en/index.html; ComponentLink2Description: Datasheet; ComponentLink2URL: http://www.analog.com/static/imported-files/data_sheets/ADUM5240_5241_5242.pdf; ComponentLink3Description: Package Specification; ComponentLink3URL: http://www.analog.com/static/imported-files/packages/PKG_PDF/SOIC_Narrow%20(R)/R_8.pdf
footprint ADI-R-8_N (SOIC, 8-Leads, Body 4.9x3.9mm, Pitch 1.27mm, IPC Medium Density)
footprint ADI-R-8_L (SOIC, 8-Leads, Body 4.9x3.9mm, Pitch 1.27mm, IPC High Density)
footprint ADI-R-8_M (SOIC, 8-Leads, Body 4.9x3.9mm, Pitch 1.27mm, IPC Low Density)
pins: 1 VDD (power) "Supply Voltage for Isolator Primary Side, 4.5 V to 5.5 V (DC-to-DC Enabled) and 2.7 V to 4.0 V (DC-to-DC Disabled).", 2 VOA (out) "Logic Output A.", 3 VIB (in) "Logic Input B.", 4 GND (power) "Ground. Ground reference for isolator primary side.", 5 GNDISO (power) "Isolated Ground. Ground reference for isolator secondary side.", 6 VOB (out) "Logic Output B.", 7 VIA (in) "Logic Input A.", 8 VISO (power) "Isolated Supply Voltage for Isolator Secondary Side, 4.5 V to 5.5 V Output (DC-to-DC Enabled), and 2.7 V to 5.5 V Input (DC-to-DC Disabled)."